# Altium footprint library NEUTRIK_NRJ6.PcbLib: 1 footprints
Each footprint in its own frame and in the unit in brackets; x right, y up, seen from the top. Pads: shape width x height; smd on the part's side, far side on the other; paste and mask are expansions set on the pad; w line width, h text height; cw(c..) or ccw(c..) is an arc to the next point about the centre after c.
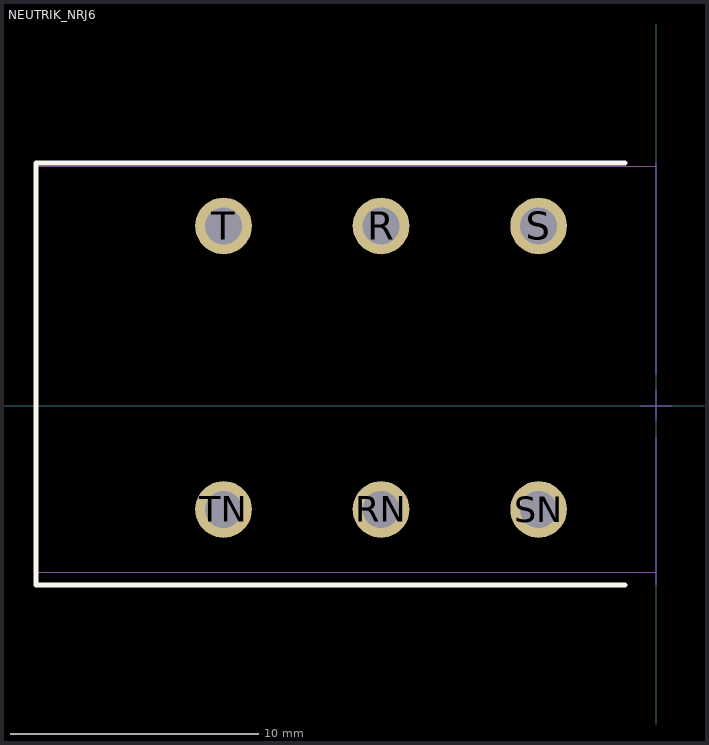
[diagram p0: the footprint, top view; thin cyan lines are the x and y axes]

## NEUTRIK_NRJ6 [mil]
pads (6):
  round 90 hole 59.06: R(-437,285) RN(-437,-165) S(-187,285) SN(-187,-165) T(-687,285) TN(-687,-165)
Top Overlay:
  lines w7.87: -50,-285 -985,-285 -985,385 -50,385
Mechanical 15:
  lines w1.97: -985,-285 -985,385 ; -985,-265 0,-265 ; -985,380 0,380 ; -25,0 25,0 ; 0,-285 0,-50 ; 0,-25 0,25 ; 0,50 0,385
3D body: height 500, standoff -157.48, extent -976.38,-253.14 322.84,366.93